# EAGLE library part XR-205 (library exar)
Monolithic WAVEFORM GENERATOR
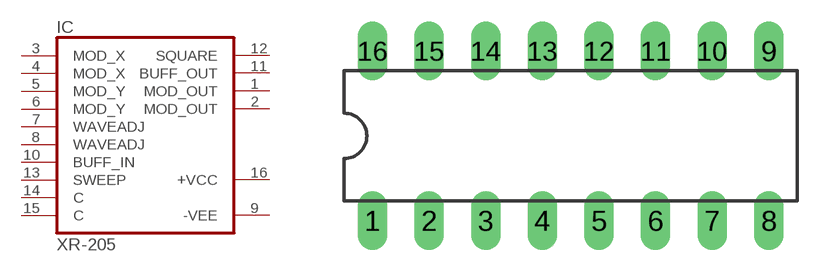
[diagram p81: symbol with the pads of DIL16; footprint DIL16]

Designator prefix IC

## XR-205 (OC_FARNELL: unknown; OC_NEWARK: unknown)  [DIL16]
1  MOD_OUT  out
2  MOD_OUT  out
3  MOD_X  in
4  MOD_X  in
5  MOD_Y  in
6  MOD_Y  in
7  WAVEADJ  in
8  WAVEADJ  in
9  -VEE  pwr
10  BUFF_IN  in
11  BUFF_OUT  out
12  SQUARE  out
13  SWEEP  in
14  C  in
15  C  in
16  +VCC  pwr

## Footprint DIL16 (pad centres in mm)
Dual In Line Package
drill 0.813 long: 1 -8.89,-3.81; 2 -6.35,-3.81; 3 -3.81,-3.81; 4 -1.27,-3.81; 5 1.27,-3.81; 6 3.81,-3.81; 7 6.35,-3.81; 8 8.89,-3.81; 9 8.89,3.81; 10 6.35,3.81; 11 3.81,3.81; 12 1.27,3.81; 13 -1.27,3.81; 14 -3.81,3.81; 15 -6.35,3.81; 16 -8.89,3.81